# EAGLE library part ATSAM4C32 (library atmel)
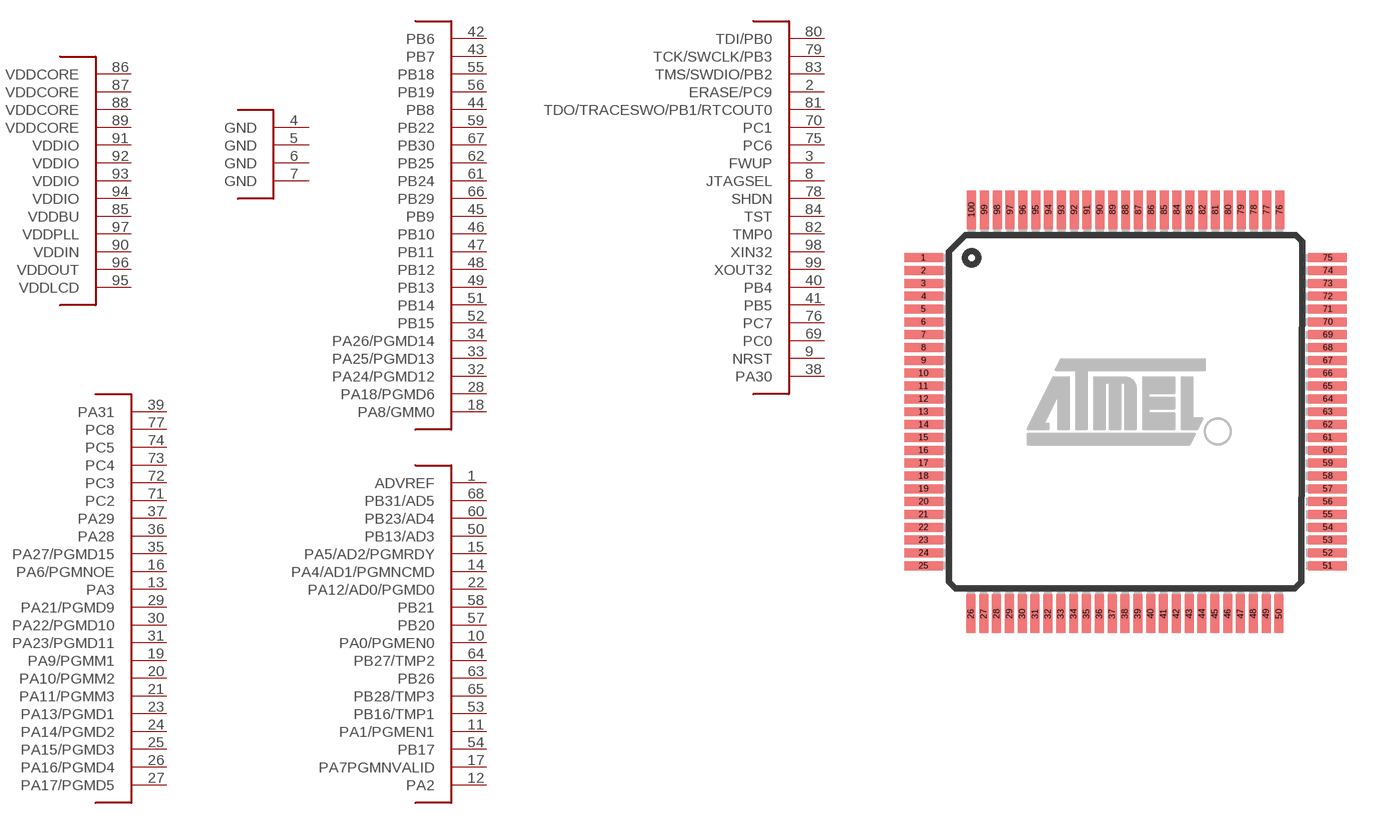
[diagram p90: symbol with the pads of LQFP100; footprint LQFP100]

Designator prefix -

## ATSAM4C32  [LQFP100]
1  ADVREF
2  ERASE/PC9
3  FWUP
4  GND  pwr
5  GND  pwr
6  GND  pwr
7  GND  pwr
8  JTAGSEL
9  NRST
10  PA0/PGMEN0
11  PA1/PGMEN1
12  PA2
13  PA3
14  PA4/AD1/PGMNCMD
15  PA5/AD2/PGMRDY
16  PA6/PGMNOE
17  PA7PGMNVALID
18  PA8/GMM0
19  PA9/PGMM1
20  PA10/PGMM2
21  PA11/PGMM3
22  PA12/AD0/PGMD0
23  PA13/PGMD1
24  PA14/PGMD2
25  PA15/PGMD3
26  PA16/PGMD4
27  PA17/PGMD5
28  PA18/PGMD6
29  PA21/PGMD9
30  PA22/PGMD10
31  PA23/PGMD11
32  PA24/PGMD12
33  PA25/PGMD13
34  PA26/PGMD14
35  PA27/PGMD15
36  PA28
37  PA29
38  PA30
39  PA31
40  PB4
41  PB5
42  PB6
43  PB7
44  PB8
45  PB9
46  PB10
47  PB11
48  PB12
49  PB13
50  PB13/AD3
51  PB14
52  PB15
53  PB16/TMP1
54  PB17
55  PB18
56  PB19
57  PB20
58  PB21
59  PB22
60  PB23/AD4
61  PB24
62  PB25
63  PB26
64  PB27/TMP2
65  PB28/TMP3
66  PB29
67  PB30
68  PB31/AD5
69  PC0
70  PC1
71  PC2
72  PC3
73  PC4
74  PC5
75  PC6
76  PC7
77  PC8
78  SHDN
79  TCK/SWCLK/PB3
80  TDI/PB0
81  TDO/TRACESWO/PB1/RTCOUT0
82  TMP0
83  TMS/SWDIO/PB2
84  TST
85  VDDBU  pwr
86  VDDCORE  pwr
87  VDDCORE  pwr
88  VDDCORE  pwr
89  VDDCORE  pwr
90  VDDIN  pwr
91  VDDIO  pwr
92  VDDIO  pwr
93  VDDIO  pwr
94  VDDIO  pwr
95  VDDLCD  pwr
96  VDDOUT  pwr
97  VDDPLL  pwr
98  XIN32
99  XOUT32

## Footprint LQFP100 (pad centres in mm)
LQFP 100 Source: 6120s.pdf
smd 1.5 x 0.35: 1 -7.875,6; 2 -7.875,5.5; 3 -7.875,5; 4 -7.875,4.5; 5 -7.875,4; 6 -7.875,3.5; 7 -7.875,3; 8 -7.875,2.5; 9 -7.875,2; 10 -7.875,1.5; 11 -7.875,1; 12 -7.875,0.5; 13 -7.875,0; 14 -7.875,-0.5; 15 -7.875,-1; 16 -7.875,-1.5; 17 -7.875,-2; 18 -7.875,-2.5; 19 -7.875,-3; 20 -7.875,-3.5; 21 -7.875,-4; 22 -7.875,-4.5; 23 -7.875,-5; 24 -7.875,-5.5; 25 -7.875,-6; 51 7.875,-6; 52 7.875,-5.5; 53 7.875,-5; 54 7.875,-4.5; 55 7.875,-4; 56 7.875,-3.5; 57 7.875,-3; 58 7.875,-2.5; 59 7.875,-2; 60 7.875,-1.5; 61 7.875,-1; 62 7.875,-0.5; 63 7.875,0; 64 7.875,0.5; 65 7.875,1; 66 7.875,1.5; 67 7.875,2; 68 7.875,2.5; 69 7.875,3; 70 7.875,3.5; 71 7.875,4; 72 7.875,4.5; 73 7.875,5; 74 7.875,5.5; 75 7.875,6
smd 0.35 x 1.5: 26 -6.025,-7.875; 27 -5.525,-7.875; 28 -5.025,-7.875; 29 -4.525,-7.875; 30 -4.025,-7.875; 31 -3.525,-7.875; 32 -3.025,-7.875; 33 -2.525,-7.875; 34 -2.025,-7.875; 35 -1.525,-7.875; 36 -1.025,-7.875; 37 -0.525,-7.875; 38 -0.025,-7.875; 39 0.475,-7.875; 40 0.975,-7.875; 41 1.475,-7.875; 42 1.975,-7.875; 43 2.475,-7.875; 44 2.975,-7.875; 45 3.475,-7.875; 46 3.975,-7.875; 47 4.475,-7.875; 48 4.975,-7.875; 49 5.475,-7.875; 50 5.975,-7.875; 76 6,7.875; 77 5.5,7.875; 78 5,7.875; 79 4.5,7.875; 80 4,7.875; 81 3.5,7.875; 82 3,7.875; 83 2.5,7.875; 84 2,7.875; 85 1.5,7.875; 86 1,7.875; 87 0.5,7.875; 88 0,7.875; 89 -0.5,7.875; 90 -1,7.875; 91 -1.5,7.875; 92 -2,7.875; 93 -2.5,7.875; 94 -3,7.875; 95 -3.5,7.875; 96 -4,7.875; 97 -4.5,7.875; 98 -5,7.875; 99 -5.5,7.875; 100 -6,7.875